# Altium footprint library (5.49mm x 5.18mm).PcbLib: 1 footprints
Each footprint in its own frame and in the unit in brackets; x right, y up, seen from the top. Pads: shape width x height; smd on the part's side, far side on the other; paste and mask are expansions set on the pad; w line width, h text height; cw(c..) or ccw(c..) is an arc to the next point about the centre after c.
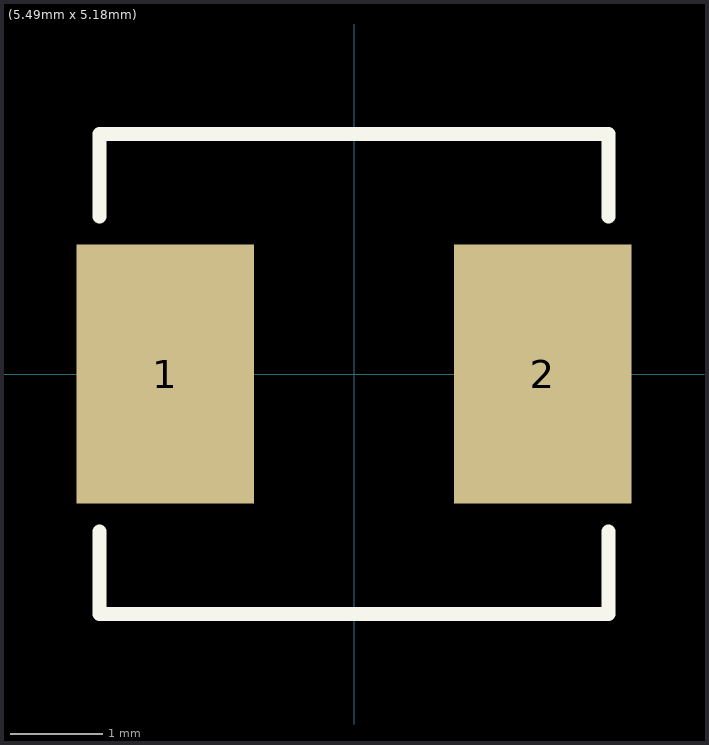
[diagram p0: the footprint, top view; thin cyan lines are the x and y axes]

## (5.49mm x 5.18mm) [mm]
pads (2):
  rect 1.915x2.79 smd: 1(-2.037,0) 2(2.037,0)
Top Overlay:
  lines w0.15: -2.745,-1.7 -2.745,-2.59 2.745,-2.59 2.745,-1.7 ; -2.745,1.7 -2.745,2.59 2.745,2.59 2.745,1.7
3D body: height 2, standoff 0, extent -2.794,-2.667 2.794,2.54